# Altium schematic symbol library TSOP75238.SchLib: 1 symbol
Pins are listed as number, name and electrical type; pins without a type are passive.

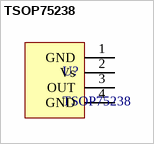
[diagram p0: symbol TSOP75238]

## TSOP75238
designator U?
pins: 1 GND, 2 Vs, 3 OUT, 4 GND